# EAGLE library part LM723 (library trosh_devices.eagle.v9)
LM723 Voltage Regulator
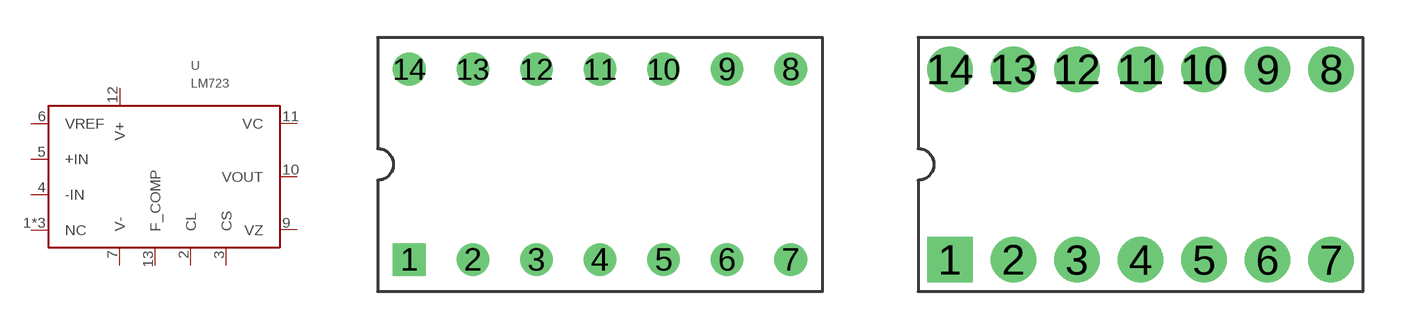
[diagram p5: symbol with the pads of DIP14; footprints DIP14, DIP14-EXPAD]

Designator prefix U

## LM723  [DIP14]
1  NC
2  CL
3  CS
4  -IN
5  +IN
6  VREF
7  V-
8  NC
9  VZ
10  VOUT
11  VC
12  V+
13  F_COMP
14  NC

## LM723-EXPAD  [DIP14-EXPAD]
Pads as for DIP14

## Footprint DIP14 (pad centres in mm)
drill 0.8 square: 1 -7.62,-3.81
drill 0.8: 2 -5.08,-3.81; 3 -2.54,-3.81; 4 0,-3.81; 5 2.54,-3.81; 6 5.08,-3.81; 7 7.62,-3.81; 8 7.62,3.81; 9 5.08,3.81; 10 2.54,3.81; 11 0,3.81; 12 -2.54,3.81; 13 -5.08,3.81; 14 -7.62,3.81

## Footprint DIP14-EXPAD (pad centres in mm)
pad annular ring = 18mil
drill 0.8 pad 1.816 square: 1 -7.62,-3.81
drill 0.8 pad 1.816: 2 -5.08,-3.81; 3 -2.54,-3.81; 4 0,-3.81; 5 2.54,-3.81; 6 5.08,-3.81; 7 7.62,-3.81; 8 7.62,3.81; 9 5.08,3.81; 10 2.54,3.81; 11 0,3.81; 12 -2.54,3.81; 13 -5.08,3.81; 14 -7.62,3.81